# Altium footprint library QFN40P500X500X80-41N.PcbLib: 1 footprints
Each footprint in its own frame and in the unit in brackets; x right, y up, seen from the top. Pads: shape width x height; smd on the part's side, far side on the other; paste and mask are expansions set on the pad; w line width, h text height; cw(c..) or ccw(c..) is an arc to the next point about the centre after c.
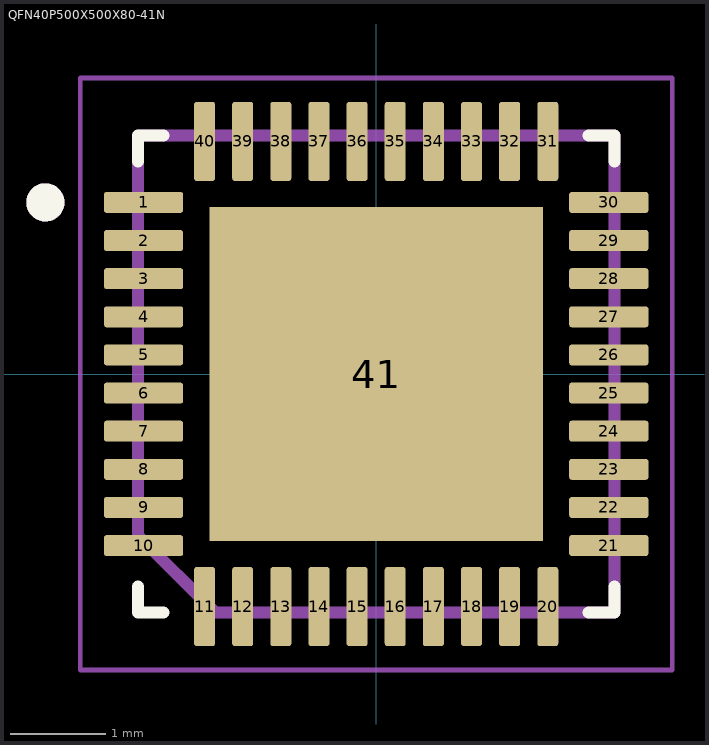
[diagram p0: the footprint, top view; thin cyan lines are the x and y axes]

## QFN40P500X500X80-41N [mm]
pads (41):
  rrect25% 0.83x0.22 smd: 1(-2.44,1.8) 2(-2.44,1.4) 3(-2.44,1) 4(-2.44,0.6) 5(-2.44,0.2) 6(-2.44,-0.2) 7(-2.44,-0.6) 8(-2.44,-1) 9(-2.44,-1.4) 10(-2.44,-1.8) 21(2.44,-1.8) 22(2.44,-1.4) 23(2.44,-1) 24(2.44,-0.6) 25(2.44,-0.2) 26(2.44,0.2) 27(2.44,0.6) 28(2.44,1) 29(2.44,1.4) 30(2.44,1.8)
  rrect25% 0.22x0.83 smd: 11(-1.8,-2.44) 12(-1.4,-2.44) 13(-1,-2.44) 14(-0.6,-2.44) 15(-0.2,-2.44) 16(0.2,-2.44) 17(0.6,-2.44) 18(1,-2.44) 19(1.4,-2.44) 20(1.8,-2.44) 31(1.8,2.44) 32(1.4,2.44) 33(1,2.44) 34(0.6,2.44) 35(0.2,2.44) 36(-0.2,2.44) 37(-0.6,2.44) 38(-1,2.44) 39(-1.4,2.44) 40(-1.8,2.44)
  rect 3.5x3.5 smd paste-3: 41(0,0)
Top Overlay:
  circle w0.2: c-3.47,1.8 r0.1
  lines w0.127: -2.5,-2.23 -2.5,-2.5 -2.23,-2.5 ; -2.5,2.23 -2.5,2.5 -2.23,2.5 ; 2.23,-2.5 2.5,-2.5 2.5,-2.23 ; 2.23,2.5 2.5,2.5 2.5,2.23
Top Paste:
  region: 1.11,-1.11 -1.11,-1.11 -1.11,1.11 1.11,1.11
Mechanical 3:
  circle w0.2: c-3.47,1.8 r0.1
  lines w0.127: -2.5,-1.691 -2.5,2.5 2.5,2.5 2.5,-2.5 -1.691,-2.5 -2.5,-1.691
Mechanical 7:
  lines w0.05: -3.105,-3.105 3.105,-3.105 3.105,3.105 -3.105,3.105 -3.105,-3.105
Mechanical 9:
  text "'.Designator'" at -5.69,-0.271 h1.02
3D body "MAX98090BETL+.STEP": height 0.81, standoff 0, extent -2.5,-2.5 2.5,2.5
3D body: height 0.81, standoff 0, extent -3.105,-3.105 3.105,3.105